# Altium footprint library KX1_DB.PcbLib: 17 footprints (part 1 of 2)
Each footprint in its own frame and in the unit in brackets; x right, y up, seen from the top. Pads: shape width x height; smd on the part's side, far side on the other; paste and mask are expansions set on the pad; w line width, h text height; cw(c..) or ccw(c..) is an arc to the next point about the centre after c.
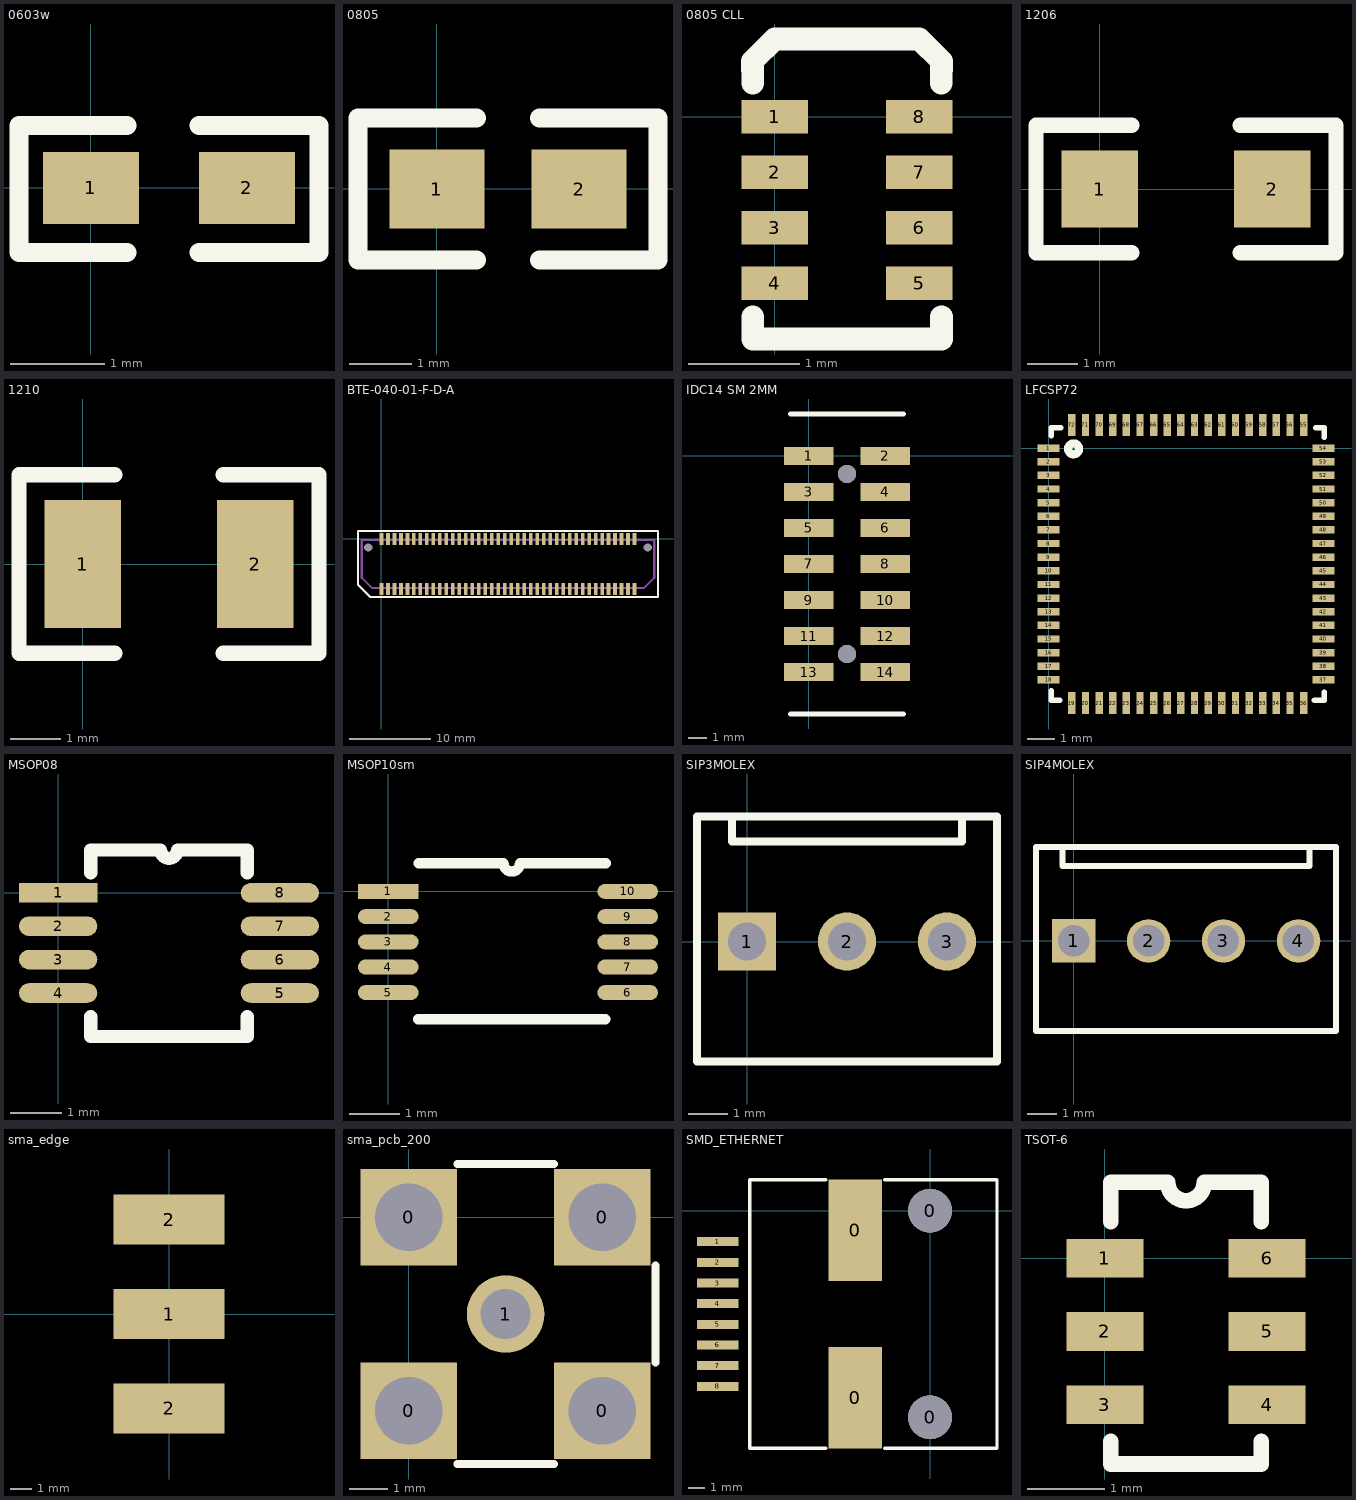
[diagram p0: the footprints below, top view; thin cyan lines are the x and y axes]

## 0603w [mil]
pads (2):
  rect 40x30 smd: 1(0,0) 2(65,0)
Top Overlay:
  lines w8: 15,-27 -30,-27 -30,26 15,26 ; 45,-27 95,-27 95,26 45,26

## 0805 [mil]
pads (2):
  rect 60x50 smd: 1(0,0) 2(90,0)
Top Overlay:
  lines w12: 25,-45 -50,-45 -50,45 25,45 ; 65,-45 140,-45 140,45 65,45

## 0805 CLL [mm]
pads (8):
  rect 0.6x0.3 smd: 1(0,0) 2(0,-0.5) 3(0,-1) 4(0,-1.5) 5(1.3,-1.5) 6(1.3,-1) 7(1.3,-0.5) 8(1.3,0)
Top Overlay:
  lines w0.203: -0.2,0.5 -0.198,0.3 ; -0.198,-1.8 -0.198,-2 1.5,-2 ; -0.198,0.5 0,0.698 1.3,0.698 1.498,0.5 ; 1.4,-2 1.5,-2 ; 1.498,0.3 1.5,0.5 ; 1.5,-1.8 1.5,-2

## 1206 [mil]
pads (2):
  rect 60x60 smd: 1(0,0) 2(135,0)
Top Overlay:
  lines w12: 25,-50 -50,-50 -50,50 25,50 ; 110,-50 185,-50 185,50 110,50

## 1210 [mil]
pads (2):
  rect 60x100 smd: 1(0,0) 2(135,0)
Top Overlay:
  lines w12: 25,-70 -50,-70 -50,70 25,70 ; 110,-70 185,-70 185,70 110,70

## BTE-040-01-F-D-A [mil]
pads (82):
  rect 18x57 smd mask+3: 1(0,0) 2(0,-243) 3(31.5,0) 4(31.5,-243) 5(63,0) 6(63,-243) 7(94.5,0) 8(94.5,-243) 9(126,0) 10(126,-243) 11(157.5,0) 12(157.5,-243) 13(189,0) 14(189,-243) 15(220.5,0) 16(220.5,-243) 17(252,0) 18(252,-243) 19(283.5,0) 20(283.5,-243) 21(315,0) 22(315,-243) 23(346.5,0) 24(346.5,-243) 25(378,0) 26(378,-243) 27(409.5,0) 28(409.5,-243) 29(441,0) 30(441,-243) 31(472.5,0) 32(472.5,-243) 33(504,0) 34(504,-243) 35(535.5,0) 36(535.5,-243) 37(567,0) 38(567,-243) 39(598.5,0) 40(598.5,-243) 41(630,0) 42(630,-243) 43(661.5,0) 44(661.5,-243) 45(693,0) 46(693,-243) 47(724.5,0) 48(724.5,-243) 49(756,0) 50(756,-243) 51(787.5,0) 52(787.5,-243) 53(819,0) 54(819,-243) 55(850.5,0) 56(850.5,-243) 57(882,0) 58(882,-243) 59(913.5,0) 60(913.5,-243) 61(945,0) 62(945,-243) 63(976.5,0) 64(976.5,-243) 65(1008,0) 66(1008,-243) 67(1039.5,0) 68(1039.5,-243) 69(1071,0) 70(1071,-243) 71(1102.5,0) 72(1102.5,-243) 73(1134,0) 74(1134,-243) 75(1165.5,0) 76(1165.5,-243) 77(1197,0) 78(1197,-243) 79(1228.5,0) 80(1228.5,-243)
  round 20 hole 40 unplated mask+20: 161(-64.5,-41.5) 162(1293,-41.5)
Top Overlay:
  lines w10: -113.75,-221.5 -113.75,38.5 1342.25,38.5 1342.25,-221.5 1342.25,-281.5 -53.75,-281.5 -113.75,-221.5
Mechanical 2:
  lines w10: -95.5,-189 -45.5,-239 1274,-239 1324,-189 1324,-4 -95.5,-4 -95.5,-189

## IDC14 SM 2MM [mm]
pads (16):
  rect 2.75x1 smd: 1(0,0) 2(4.25,0) 3(0,-2) 4(4.25,-2) 5(0,-4) 6(4.25,-4) 7(0,-6) 8(4.25,-6) 9(0,-8) 10(4.25,-8) 11(0,-10) 12(4.25,-10) 13(0,-12) 14(4.25,-12)
  round 1.016 hole 1.016: ""(2.125,-11) ""(2.125,-1)
Top Overlay:
  lines w0.254: -1.025,-14.325 5.275,-14.325 ; -1.025,2.325 5.275,2.325

## LFCSP72 [mm]
pads (72):
  rect 0.8x0.27 smd: 1(0,0) 2(0,-0.5) 3(0,-1) 4(0,-1.5) 5(0,-2) 6(0,-2.5) 7(0,-3) 8(0,-3.5) 9(0,-4) 10(0,-4.5) 11(0,-5) 12(0,-5.5) 13(0,-6) 14(0,-6.5) 15(0,-7) 16(0,-7.5) 17(0,-8) 18(0,-8.5) 37(10.077,-8.5) 38(10.077,-8) 39(10.077,-7.5) 40(10.077,-7) 41(10.077,-6.5) 42(10.077,-6) 43(10.077,-5.5) 44(10.077,-5) 45(10.077,-4.5) 46(10.077,-4) 47(10.077,-3.5) 48(10.077,-3) 49(10.077,-2.5) 50(10.077,-2) 51(10.077,-1.5) 52(10.077,-1) 53(10.077,-0.5) 54(10.077,0)
  rect 0.27x0.8 smd: 19(0.852,-9.352) 20(1.352,-9.352) 21(1.852,-9.352) 22(2.352,-9.352) 23(2.852,-9.352) 24(3.352,-9.352) 25(3.852,-9.352) 26(4.352,-9.352) 27(4.852,-9.352) 28(5.352,-9.352) 29(5.852,-9.352) 30(6.352,-9.352) 31(6.852,-9.352) 32(7.352,-9.352) 33(7.852,-9.352) 34(8.352,-9.352) 35(8.852,-9.352) 36(9.352,-9.352) 55(9.352,0.852) 56(8.852,0.852) 57(8.352,0.852) 58(7.852,0.852) 59(7.352,0.852) 60(6.852,0.852) 61(6.352,0.852) 62(5.852,0.852) 63(5.352,0.852) 64(4.852,0.852) 65(4.352,0.852) 66(3.852,0.852) 67(3.352,0.852) 68(2.852,0.852) 69(2.352,0.852) 70(1.852,0.852) 71(1.352,0.852) 72(0.852,0.852)
Top Overlay:
  circle w0.3: c0.914,-0.025 r0.2
  lines w0.203: 0.102,-8.9 0.102,-9.25 0.402,-9.25 ; 0.102,0.45 0.102,0.75 0.452,0.75 ; 9.752,-9.25 10.102,-9.25 10.102,-8.95 ; 9.802,0.75 10.102,0.75 10.102,0.4

## MSOP08 [mil]
pads (8):
  rect 60x15 smd: 1(0,0)
  oval 60x15 smd: 2(0,-25.6) 3(0,-51.2) 4(0,-76.8) 5(170,-76.8) 6(170,-51.2) 7(170,-25.6) 8(170,0)
Top Overlay:
  lines w10: 25,-95 25,-110 145,-110 145,-95 ; 25,15.4 25,32.8 78.6,32.8 ccw(c85,32.8) 91.4,32.8 145,32.8 145,15.4

## MSOP10sm [mm]
pads (10):
  rect 1.2x0.3 smd: 1(0,0)
  oval 1.2x0.3 smd: 2(0,-0.5) 3(0,-1) 4(0,-1.5) 5(0,-2.008) 6(4.75,-2.008) 7(4.75,-1.5) 8(4.75,-1) 9(4.75,-0.5) 10(4.75,0)
Top Overlay:
  lines w0.203: 0.597,-2.533 1.316,-2.533 3.591,-2.533 4.31,-2.533 ; 0.607,0.558 1.326,0.558 2.287,0.558 ccw(c2.45,0.558) 2.613,0.558 3.599,0.558 4.318,0.558

## SIP3MOLEX [mil]
pads (3):
  rect 58x58 hole 38: 1(0,0)
  round 58 hole 38: 2(100,0) 3(200,0)
Top Overlay:
  lines w8: -15,125 -15,100 50,100 215,100 215,125 ; -50,-120 -50,125 250,125 250,-120 -50,-120

## SIP4MOLEX [mil]
pads (4):
  rect 58x58 hole 42: 1(0,0)
  round 58 hole 42: 2(100,0) 3(200,0) 4(300,0)
Top Overlay:
  lines w8: -15,125 -15,100 50,100 315,100 315,125 ; -50,-120 350,-120 350,125 -50,125 -50,-120

## sma_edge [mil]
pads (3):
  rect 200x90 smd: 1(0,0)
  rect 200x90 all layers, no hole: 2(0,-170) 2(0,170)

## sma_pcb_200 [mil]
pads (5):
  rect 100x100 hole 70: 0(0,-200) 0(0,0) 0(200,-200) 0(200,0)
  round 80 hole 52: 1(100,-100)
Top Overlay:
  lines w8: 50,-255 150,-255 ; 50,55 150,55 ; 255,-150 255,-50

## SMD_ETHERNET [mil]
pads (12):
  rect 130x245 smd: 0(-181,-452.5) 0(-181,-47.5)
  round 106 hole 106: 0(0,-500) 0(0,0)
  rect 100x22 smd: 1(-514,-75) 2(-514,-125) 3(-514,-175) 4(-514,-225) 5(-514,-275) 6(-514,-325) 7(-514,-375) 8(-514,-425)
Top Overlay:
  lines w8: -252,-575 -436,-575 -436,75 -252,75 ; -110,-575 162,-575 162,75 -110,75

## TSOT-6 [mm]
pads (6):
  rect 1x0.5 smd: 1(0,0) 2(0,-0.95) 3(0,-1.9) 4(2.102,-1.9) 5(2.102,-0.95) 6(2.102,0)
Top Overlay:
  lines w0.203: 0.078,-2.375 0.078,-2.667 2.024,-2.667 2.024,-2.375 ; 0.078,0.475 0.078,0.983 0.813,0.983 ccw(c1.051,0.983) 1.288,0.983 2.024,0.983 2.024,0.475